# Altium schematic symbol library L78M05CDT-TR.SchLib: 1 symbol
Pins are listed as number, name and electrical type; pins without a type are passive.

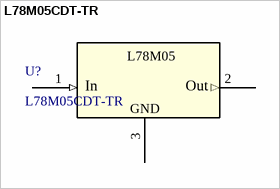
[diagram p0: symbol L78M05CDT-TR]

## L78M05CDT-TR
designator U?
Precision 500 mA regulators; Manufacturer_Name: STMicroelectronics; Copyright: Copyright (C) 2025 Ultra Librarian. All rights reserved.; Manufacturer_Part_Number: L78M05CDT-TR; RefDes: RefDes; Type: Type
footprint DPAK_STM
pins: 1 INPUT (in), 2 OUTPUT (out), 3 GROUND (power)
text: L78M05; In; Out; GND